# EAGLE library part MSP430G2X31 (library Pygmy)
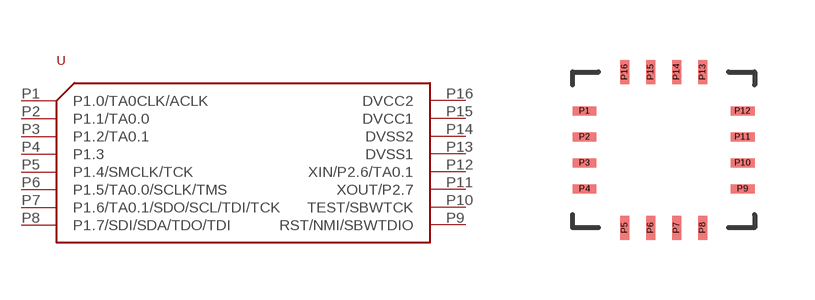
[diagram p85: symbol with the pads of RSA-S-PVQFN-N16; footprint RSA-S-PVQFN-N16]

Designator prefix -

## MSP430G2X31  [RSA-S-PVQFN-N16]
P1  P1.0/TA0CLK/ACLK
P2  P1.1/TA0.0
P3  P1.2/TA0.1
P4  P1.3
P5  P1.4/SMCLK/TCK
P6  P1.5/TA0.0/SCLK/TMS
P7  P1.6/TA0.1/SDO/SCL/TDI/TCK
P8  P1.7/SDI/SDA/TDO/TDI
P9  RST/NMI/SBWTDIO
P10  TEST/SBWTCK
P11  XOUT/P2.7
P12  XIN/P2.6/TA0.1
P13  DVSS1
P14  DVSS2
P15  DVCC1
P16  DVCC2

## Footprint RSA-S-PVQFN-N16 (pad centres in mm)
smd 0.6 x 0.225: P1 -1.975,0.975; P2 -1.975,0.325; P3 -1.975,-0.325; P4 -1.975,-0.975; P9 1.975,-0.975; P10 1.975,-0.325; P11 1.975,0.325; P12 1.975,0.975
smd 0.225 x 0.6: P5 -0.975,-1.95; P6 -0.325,-1.95; P7 0.325,-1.95; P8 0.975,-1.95; P13 0.975,1.95; P14 0.325,1.95; P15 -0.325,1.95; P16 -0.975,1.95